# EAGLE library part BQ500511ARHAR (library BQ500511ARHAR)
Wireless Charging ICs Wireless Power Transmitter Controller 40-VQFN -40 to 85 Source: Datasheet <http://www.ti.com/lit/ds/symlink/bq500511a.pdf>
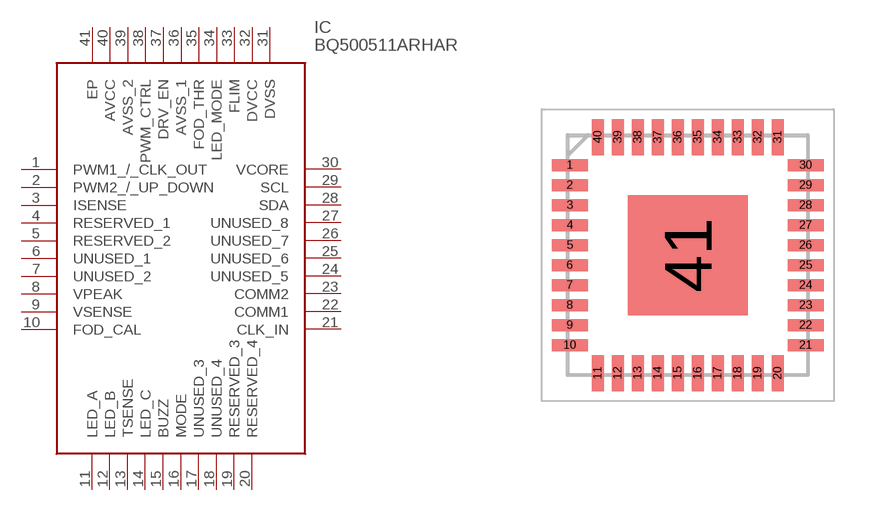
[diagram p0: symbol with the pads of QFN50P600X600X100-41N; footprint QFN50P600X600X100-41N]

Designator prefix IC

## BQ500511ARHAR (Description: Wireless Charging ICs Wireless Power Transmitter Controller 40-VQFN -40 to 85; Height: 1mm; Manufacturer_Name: Texas Instruments; Manufacturer_Part_Number: BQ500511ARHAR; Mouser_Part_Number: 595-BQ500511ARHAR; Mouser_Price-Stock: https://www.mouser.co.uk/ProductDetail/Texas-Instruments/BQ500511ARHAR?qs=LuYMPh7GGMTHLnf6Ooavlw%3D%3D)  [QFN50P600X600X100-41N]
1  PWM1_/_CLK_OUT
2  PWM2_/_UP_DOWN
3  ISENSE
4  RESERVED_1
5  RESERVED_2
6  UNUSED_1
7  UNUSED_2
8  VPEAK
9  VSENSE
10  FOD_CAL
11  LED_A
12  LED_B
13  TSENSE
14  LED_C
15  BUZZ
16  MODE
17  UNUSED_3
18  UNUSED_4
19  RESERVED_3
20  RESERVED_4
21  CLK_IN
22  COMM1
23  COMM2
24  UNUSED_5
25  UNUSED_6
26  UNUSED_7
27  UNUSED_8
28  SDA
29  SCL
30  VCORE
31  DVSS
32  DVCC
33  FLIM
34  LED_MODE
35  FOD_THR
36  AVSS_1
37  DRV_EN
38  PWM_CTRL
39  AVSS_2
40  AVCC
41  EP

## Footprint QFN50P600X600X100-41N (pad centres in mm)
RHA(S-PVQFN-N40)
smd 0.9 x 0.3: 1 -2.95,2.25; 2 -2.95,1.75; 3 -2.95,1.25; 4 -2.95,0.75; 5 -2.95,0.25; 6 -2.95,-0.25; 7 -2.95,-0.75; 8 -2.95,-1.25; 9 -2.95,-1.75; 10 -2.95,-2.25; 21 2.95,-2.25; 22 2.95,-1.75; 23 2.95,-1.25; 24 2.95,-0.75; 25 2.95,-0.25; 26 2.95,0.25; 27 2.95,0.75; 28 2.95,1.25; 29 2.95,1.75; 30 2.95,2.25
smd 0.3 x 0.9: 11 -2.25,-2.95; 12 -1.75,-2.95; 13 -1.25,-2.95; 14 -0.75,-2.95; 15 -0.25,-2.95; 16 0.25,-2.95; 17 0.75,-2.95; 18 1.25,-2.95; 19 1.75,-2.95; 20 2.25,-2.95; 31 2.25,2.95; 32 1.75,2.95; 33 1.25,2.95; 34 0.75,2.95; 35 0.25,2.95; 36 -0.25,2.95; 37 -0.75,2.95; 38 -1.25,2.95; 39 -1.75,2.95; 40 -2.25,2.95
smd 3 x 3: 41 0,0